# Altium schematic symbol library ERJ-8ENF1003V.SchLib: 1 symbol
Pins are listed as number, name and electrical type; pins without a type are passive.

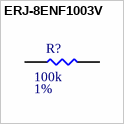
[diagram p0: symbol ERJ-8ENF1003V]

## ERJ-8ENF1003V
designator R?  Tolerance: 1%  Resistance: 100k  (hidden comment: ERJ-8ENF1003V)
RES SMD 100K OHM 1% 1/4W 1206; MFR: Panasonic; Qualifications: AEC-Q200; PN: ERJ-8ENF1003V; Footprint: RES1206; ComponentLink1Description: Datasheet; ComponentLink1URL: https://www.mouser.ca/datasheet/2/315/AOA0000C304-1149620.pdf; Package: 1206; Power Rating: 1/4W; Supplier 1: Digi-Key; Supplier Part Number 1: P100KFCT-ND
footprint RES1206 (Generic 1206 PCB Footprint)
pins: 1, 2